# Altium integrated library SMD-RES-1M-1_-1_16W_0402_.IntLib: 1 symbol
Pins are listed as number, name and electrical type; pins without a type are passive.

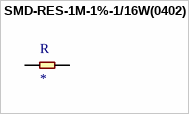
[diagram p0: symbol SMD-RES-1M-1%-1/16W(0402)]

## SMD-RES-1M-1%-1/16W(0402)
designator R
1 MOhms Â±1% 0.063W, 1/16W Chip Resistor 0402 _1005 Metric_ Moisture Resistant Thick Film; MP: RC0402FR-071ML; MF: Yageo; Price: None; SnapEDA_Link: https://www.snapeda.com/parts/RC0402FR-071ML/Yageo/view-part/106011/?ref=snap; Availability: Unavailable; Value: *; Package: 0402 Yageo
footprint R0402
pins: 1, 2